# EAGLE library part 502584-0870 (library molex)
CONN RCPT VERT 8POS 1.50MM PCB tested: NO
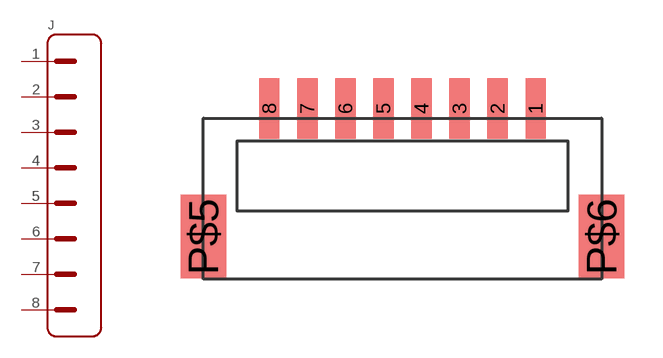
[diagram p8: symbol with the pads of 502584-0870; footprint 502584-0870]

Designator prefix J

## 502584-0870  [502584-0870]
1  1
2  2
3  3
4  4
5  5
6  6
7  7
8  8

## Footprint 502584-0870 (pad centres in mm)
smd 0.8 x 2.4: 1 5.25,5.05; 2 3.75,5.05; 3 2.25,5.05; 4 0.75,5.05; 5 -0.75,5.05; 6 -2.25,5.05; 7 -3.75,5.05; 8 -5.25,5.05
smd 1.8 x 3.3: P$5 -7.85,0; P$6 7.85,0